# Altium footprint library Latrobe.PCBLIB: 50 footprints (part 2 of 4)
Each footprint in its own frame and in the unit in brackets; x right, y up, seen from the top. Pads: shape width x height; smd on the part's side, far side on the other; paste and mask are expansions set on the pad; w line width, h text height; cw(c..) or ccw(c..) is an arc to the next point about the centre after c.
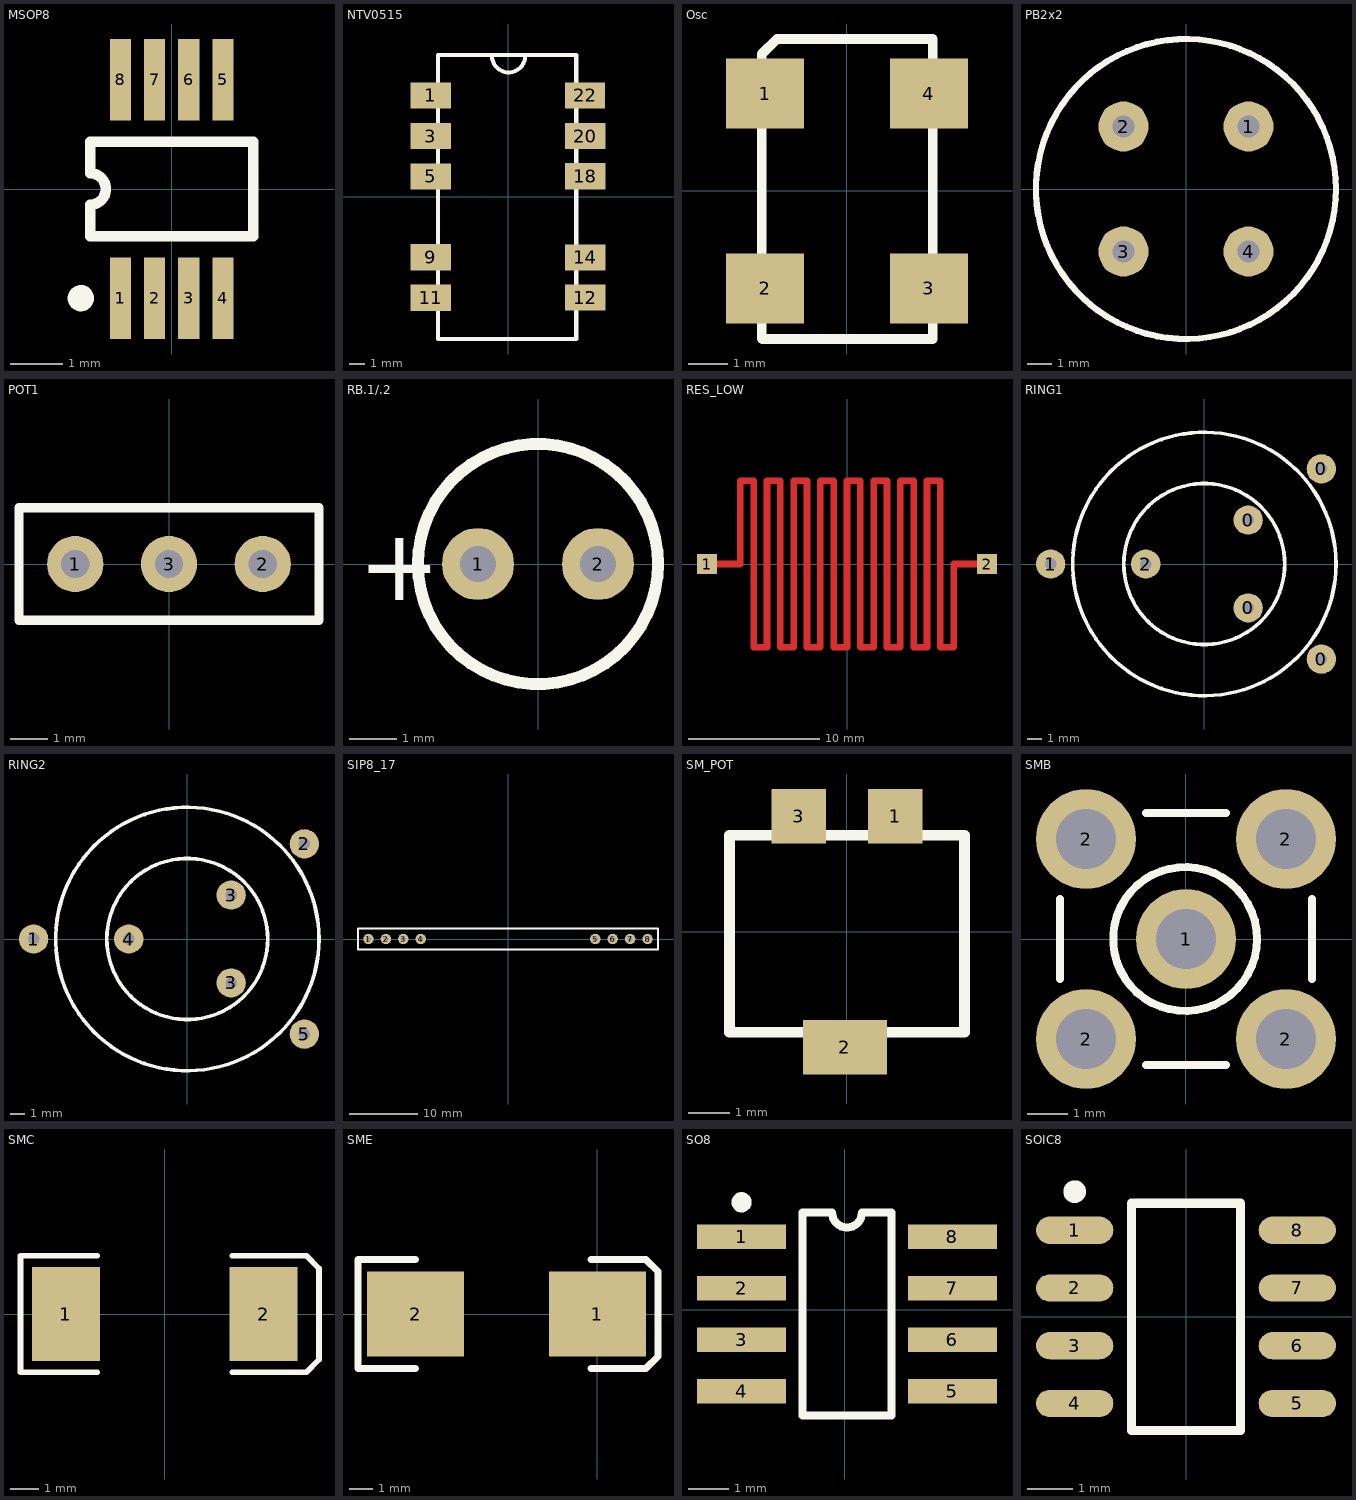
[diagram p1: the footprints below, top view; thin cyan lines are the x and y axes]

## MSOP8 [mm] "Shrink Small Outline, MSOP; 8 Leads; Body Width 3 mm; Pitch 0.65 mm"
height 1.1
pads (8):
  rect 0.4x1.55 smd: 1(-0.975,-2.075) 2(-0.325,-2.075) 3(0.325,-2.075) 4(0.975,-2.075) 5(0.975,2.075) 6(0.325,2.075) 7(-0.325,2.075) 8(-0.975,2.075)
TopOverlay:
  circle w0.25: c-1.725,-2.075 r0.125
  lines w0.2: -1.55,-0.9 -1.55,-0.3 ccw(c-1.55,0) -1.55,0.3 -1.55,0.9 1.55,0.9 1.55,-0.9 -1.55,-0.9

## NTV0515 [mm]
pads (10):
  rect 2.54x1.65 smd: 1(-4.862,6.355) 3(-4.852,3.805) 5(-4.852,1.265) 9(-4.852,-3.815) 11(-4.852,-6.355) 12(4.862,-6.345) 14(4.862,-3.82) 18(4.862,1.28) 20(4.862,3.805) 22(4.838,6.355)
TopOverlay:
  lines w0.254: -1.01,8.855 ccw(c0.038,8.855) 1.085,8.855 ; -4.387,-8.945 4.287,-8.945 4.287,8.885 -4.387,8.885 -4.387,-8.945

## Osc [mm] "7.0 x 5.0mm SMD Ceramic Package"
height 1.8
pads (4):
  rect 2x1.8 smd: 1(-2.1,2.5) 2(-2.1,-2.5) 3(2.1,-2.5) 4(2.1,2.5)
TopOverlay:
  lines w0.254: -2.187,-3.787 -2.175,-3.8 2.2,-3.8 2.2,3.9 -1.8,3.9 -2.187,3.513 -2.187,-3.787

## PB2x2 [mil]
pads (4):
  round 80 hole 35: 1(100,100) 2(-100,100) 3(-100,-100) 4(100,-100)
TopOverlay:
  circle w10: c0,0 r240

## POT1 [mil]
pads (3):
  round 60 hole 30: 1(-100,0) 2(100,0) 3(0,0)
TopOverlay:
  lines w10: -160,-60 -160,60 160,60 160,-60 -160,-60

## RB.1/.2 [mil]
pads (2):
  round 60 hole 30: 1(-50,0) 2(50,0)
TopOverlay:
  circle w10: c0,0 r100
  text "+" at -150,-30 h60

## RES_LOW [mil]
pads (2):
  rect 60x60 smd: 1(-420,0) 2(420,0)
TopLayer:
  lines w20: -420,0 -320,0 -320,80 -320,250 -280,250 -280,-250 -240,-250 -240,250 -200,250 -200,-250 -160,-250 -160,250 -120,250 -120,-250 -80,-250 -80,250 -40,250 -40,-250 0,-250 0,250 40,250 40,-250 80,-250 80,250 120,250 120,-250 160,-250 160,250 200,250 200,-250 240,-250 240,250 280,250 280,-250 320,-250 320,0 420,0

## RING1 [mil]
pads (6):
  round 80 hole 32: 0(120,-120) 0(120,120) 0(320,-260) 0(320,260) 1(-420,0) 2(-160,0)
TopOverlay:
  circle w10: c0,0 r360
  circle w10: c0,0 r220

## RING2 [mil]
pads (6):
  round 80 hole 32: 1(-420,0) 2(320,260) 3(120,-120) 3(120,120) 4(-160,0) 5(320,-260)
TopOverlay:
  circle w10: c0,0 r220
  circle w10: c0,0 r360

## SIP8_17 [mil]
pads (8):
  round 60 hole 30: 1(-800,0) 2(-700,0) 3(-600,0) 4(-500,0) 5(500,0) 6(600,0) 7(700,0) 8(800,0)
TopOverlay:
  lines w10: -860,-60 -860,60 860,60 860,-60 -860,-60

## SM_POT [mm] "Surface mount Trimmer"
height 2.55
pads (3):
  rect 1.3x1.3 smd: 1(1.15,2.75) 3(-1.15,2.75)
  rect 2x1.3 smd: 2(-0.05,-2.75)
TopOverlay:
  lines w0.254: -2.8,-2.4 -2.8,2.3 2.8,2.3 2.8,-2.4 -2.8,-2.4

## SMB [mm]
pads (5):
  round 2.5 hole 1.5: 1(0,0) 2(-2.5,-2.5) 2(-2.5,2.5) 2(2.5,-2.5) 2(2.5,2.5)
TopOverlay:
  circle w0.2: c-0.022,0 r1.8
  lines w0.2: -3.15,-1 -3.15,1 ; -1,-3.15 1,-3.15 ; -1,3.15 1,3.15 ; 3.15,-1 3.15,1

## SMC [mm]
pads (2):
  rect 2.4x3.3 smd: 1(-3.475,0) 2(3.475,0)
TopOverlay:
  lines w0.2: -2.375,-2.05 -5.075,-2.05 -5.075,2.05 -2.375,2.05 ; 2.375,-2.05 4.975,-2.05 5.425,-1.6 5.425,1.6 4.975,2.055 ; 2.375,2.05 4.975,2.05

## SME [mil]
pads (2):
  rect 160x140 smd: 1(0,0) 2(-300,0)
TopOverlay:
  lines w12: -300,-90 -395,-90 -395,90 -300,90 ; -10,-90 80,-90 100,-70 100,70 80,90 -10,90

## SO8 [mm]
pads (8):
  rect 2.2x0.6 smd: 1(-2.55,1.805) 2(-2.55,0.535) 3(-2.55,-0.735) 4(-2.55,-2.005) 5(2.65,-2.005) 6(2.65,-0.735) 7(2.65,0.535) 8(2.65,1.805)
TopOverlay:
  circle w0.25: c-2.55,2.655 r0.125
  lines w0.2: -1.05,-2.6 1.15,-2.6 1.15,2.4 0.417,2.4 cw(c0.05,2.4) -0.317,2.4 -1.05,2.4 -1.05,-2.6

## SOIC8 [mm]
pads (8):
  oval 1.7x0.6 smd: 1(-2.45,1.905) 2(-2.45,0.635) 3(-2.45,-0.635) 4(-2.45,-1.905) 5(2.45,-1.905) 6(2.45,-0.635) 7(2.45,0.635) 8(2.45,1.905)
TopOverlay:
  circle w0.25: c-2.45,2.755 r0.125
  lines w0.2: -1.2,-2.5 1.2,-2.5 1.2,2.5 -1.2,2.5 -1.2,-2.5